# Altium schematic symbol library EFC8811R-TF.SchLib: 1 symbol
Pins are listed as number, name and electrical type; pins without a type are passive.

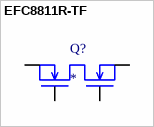
[diagram p0: symbol EFC8811R-TF]

## EFC8811R-TF
designator Q?
pins: 1, 2, 3, 4, 5, 6